# Altium schematic symbol library Res Thermal1.Schlib: 1 symbol
Pins are listed as number, name and electrical type; pins without a type are passive.

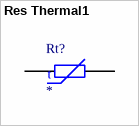
[diagram p0: symbol Res Thermal1]

## Res Thermal1
designator Rt?
Varistor (Thermal-Sensitive Resistor)
pins: 1, 2
text: t